# Altium footprint library LMS7002M.PcbLib: 1 footprints
Each footprint in its own frame and in the unit in brackets; x right, y up, seen from the top. Pads: shape width x height; smd on the part's side, far side on the other; paste and mask are expansions set on the pad; w line width, h text height; cw(c..) or ccw(c..) is an arc to the next point about the centre after c.
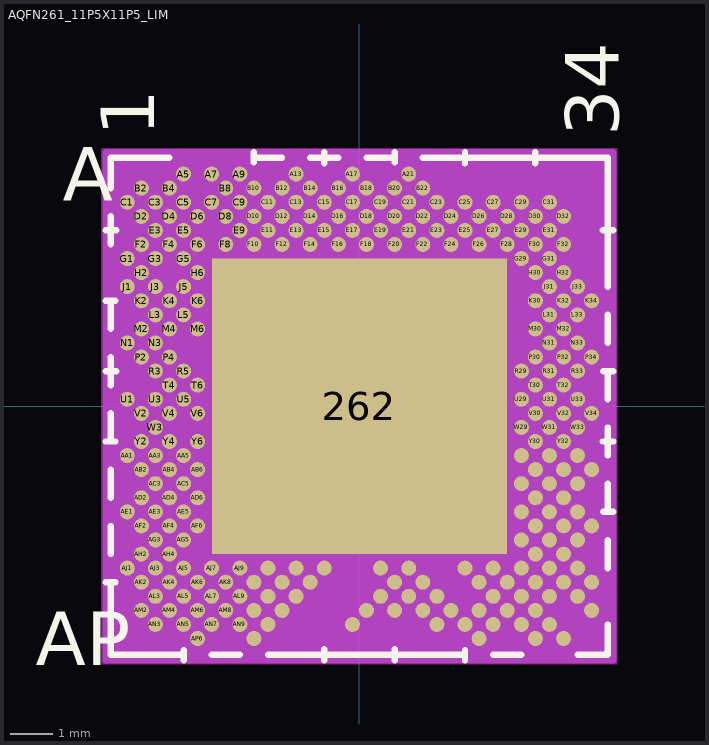
[diagram p0: the footprint, top view; thin cyan lines are the x and y axes]

## AQFN261_11P5X11P5_LIM [mil]
pads (262):
  rect 275x275 smd paste-137 mask+0: 262(0,0)
  round 14 smd paste+0 mask+0: A5(-163.88,216.32) A7(-137.66,216.32) A9(-111.44,216.32) A13(-59,216.32) A17(-6.56,216.32) A21(45.89,216.32) AA1(-216.32,-45.89) AA3(-190.1,-45.89) AA5(-163.88,-45.89) AA29(150.77,-45.89) AA31(176.99,-45.89) AA33(203.21,-45.89) AB2(-203.21,-59) AB4(-176.99,-59) AB6(-150.77,-59) AB30(163.88,-59) AB32(190.1,-59) AB34(216.32,-59) AC3(-190.1,-72.11) AC5(-163.88,-72.11) AC29(150.77,-72.11) AC31(176.99,-72.11) AC33(203.21,-72.11) AD2(-203.21,-85.22) AD4(-176.99,-85.22) AD6(-150.77,-85.22) AD30(163.88,-85.22) AD32(190.1,-85.22) AE1(-216.32,-98.33) AE3(-190.1,-98.33) AE5(-163.88,-98.33) AE29(150.77,-98.33) AE31(176.99,-98.33) AE33(203.21,-98.33) AF2(-203.21,-111.44) AF4(-176.99,-111.44) AF6(-150.77,-111.44) AF30(163.88,-111.44) AF32(190.1,-111.44) AF34(216.32,-111.44) AG3(-190.1,-124.55) AG5(-163.88,-124.55) AG29(150.77,-124.55) AG31(176.99,-124.55) AG33(203.21,-124.55) AH2(-203.21,-137.66) AH4(-176.99,-137.66) AH30(163.88,-137.66) AH32(190.1,-137.66) AJ1(-216.32,-150.77) AJ3(-190.1,-150.77) AJ5(-163.88,-150.77) AJ7(-137.66,-150.77) AJ9(-111.44,-150.77) AJ11(-85.22,-150.77) AJ13(-59,-150.77) AJ15(-32.78,-150.77) AJ19(19.67,-150.77) AJ21(45.89,-150.77) AJ25(98.33,-150.77) AJ27(124.55,-150.77) AJ29(150.77,-150.77) AJ31(176.99,-150.77) AJ33(203.21,-150.77) AK2(-203.21,-163.88) AK4(-176.99,-163.88) AK6(-150.77,-163.88) AK8(-124.55,-163.88) AK10(-98.33,-163.88) AK12(-72.11,-163.88) AK14(-45.89,-163.88) AK20(32.78,-163.88) AK22(59,-163.88) AK26(111.44,-163.88) AK28(137.66,-163.88) AK30(163.88,-163.88) AK32(190.1,-163.88) AK34(216.32,-163.88) AL3(-190.1,-176.99) AL5(-163.88,-176.99) AL7(-137.66,-176.99) AL9(-111.44,-176.99) AL11(-85.22,-176.99) AL13(-59,-176.99) AL19(19.67,-176.99) AL21(45.89,-176.99) AL23(72.11,-176.99) AL27(124.55,-176.99) AL29(150.77,-176.99) AL31(176.99,-176.99) AL33(203.21,-176.99) AM2(-203.21,-190.1) AM4(-176.99,-190.1) AM6(-150.77,-190.1) AM8(-124.55,-190.1) AM10(-98.33,-190.1) AM12(-72.11,-190.1) AM18(6.56,-190.1) AM20(32.78,-190.1) AM22(59,-190.1) AM24(85.22,-190.1) AM26(111.44,-190.1) AM28(137.66,-190.1) AM30(163.88,-190.1) AM34(216.32,-190.1) AN3(-190.1,-203.21) AN5(-163.88,-203.21) AN7(-137.66,-203.21) AN9(-111.44,-203.21) AN11(-85.22,-203.21) AN17(-6.56,-203.21) AN23(72.11,-203.21) AN25(98.33,-203.21) AN27(124.55,-203.21) AN29(150.77,-203.21) AN31(176.99,-203.21) AP6(-150.77,-216.32) AP10(-98.33,-216.32) AP26(111.44,-216.32) AP30(163.88,-216.32) AP32(190.1,-216.32) B2(-203.21,203.21) B4(-176.99,203.21) B8(-124.55,203.21) B10(-98.33,203.21) B12(-72.11,203.21) B14(-45.89,203.21) B16(-19.67,203.21) B18(6.56,203.21) B20(32.78,203.21) B22(59,203.21) C1(-216.32,190.1) C3(-190.1,190.1) C5(-163.88,190.1) C7(-137.66,190.1) C9(-111.44,190.1) C11(-85.22,190.1) C13(-59,190.1) C15(-32.78,190.1) C17(-6.56,190.1) C19(19.67,190.1) C21(45.89,190.1) C23(72.11,190.1) C25(98.33,190.1) C27(124.55,190.1) C29(150.77,190.1) C31(176.99,190.1) D2(-203.21,176.99) D4(-176.99,176.99) D6(-150.77,176.99) D8(-124.55,176.99) D10(-98.33,176.99) D12(-72.11,176.99) D14(-45.89,176.99) D16(-19.67,176.99) D18(6.56,176.99) D20(32.78,176.99) D22(59,176.99) D24(85.22,176.99) D26(111.44,176.99) D28(137.66,176.99) D30(163.88,176.99) D32(190.1,176.99) E3(-190.1,163.88) E5(-163.88,163.88) E9(-111.44,163.88) E11(-85.22,163.88) E13(-59,163.88) E15(-32.78,163.88) E17(-6.56,163.88) E19(19.67,163.88) E21(45.89,163.88) E23(72.11,163.88) E25(98.33,163.88) E27(124.55,163.88) E29(150.77,163.88) E31(176.99,163.88) F2(-203.21,150.77) F4(-176.99,150.77) F6(-150.77,150.77) F8(-124.55,150.77) F10(-98.33,150.77) F12(-72.11,150.77) F14(-45.89,150.77) F16(-19.67,150.77) F18(6.56,150.77) F20(32.78,150.77) F22(59,150.77) F24(85.22,150.77) F26(111.44,150.77) F28(137.66,150.77) F30(163.88,150.77) F32(190.1,150.77) G1(-216.32,137.66) G3(-190.1,137.66) G5(-163.88,137.66) G29(150.77,137.66) G31(176.99,137.66) H2(-203.21,124.55) H6(-150.77,124.55) H30(163.88,124.55) H32(190.1,124.55) J1(-216.32,111.44) J3(-190.1,111.44) J5(-163.88,111.44) J31(176.99,111.44) J33(203.21,111.44) K2(-203.21,98.33) K4(-176.99,98.33) K6(-150.77,98.33) K30(163.88,98.33) K32(190.1,98.33) K34(216.32,98.33) L3(-190.1,85.22) L5(-163.88,85.22) L31(176.99,85.22) L33(203.21,85.22) M2(-203.21,72.11) M4(-176.99,72.11) M6(-150.77,72.11) M30(163.88,72.11) M32(190.1,72.11) N1(-216.32,59) N3(-190.1,59) N31(176.99,59) N33(203.21,59) P2(-203.21,45.89) P4(-176.99,45.89) P30(163.88,45.89) P32(190.1,45.89) P34(216.32,45.89) R3(-190.1,32.78) R5(-163.88,32.78) R29(150.77,32.78) R31(176.99,32.78) R33(203.21,32.78) T4(-176.99,19.67) T6(-150.77,19.67) T30(163.88,19.67) T32(190.1,19.67) U1(-216.32,6.56) U3(-190.1,6.56) U5(-163.88,6.56) U29(150.77,6.56) U31(176.99,6.56) U33(203.21,6.56) V2(-203.21,-6.56) V4(-176.99,-6.56) V6(-150.77,-6.56) V30(163.88,-6.56) V32(190.1,-6.56) V34(216.32,-6.56) W3(-190.1,-19.67) W29(150.77,-19.67) W31(176.99,-19.67) W33(203.21,-19.67) Y2(-203.21,-32.78) Y4(-176.99,-32.78) Y6(-150.77,-32.78) Y30(163.88,-32.78) Y32(190.1,-32.78)
Top Overlay:
  lines w6: -236.5,-163.88 -227.3,-163.88 ; -236.5,-32.78 -227.3,-32.78 ; -236.5,32.78 -226.5,32.78 ; -236.5,98.33 -227.3,98.33 ; -236.5,163.88 -226.5,163.88 ; -231.5,-163.94 -231.5,-231.5 -163.94,-231.5 ; -231.5,-137.59 -231.5,-111.5 ; -231.5,-85.15 -231.5,-59.06 ; -231.5,-32.71 -231.5,-6.62 ; -231.5,19.73 -231.5,45.82 ; -231.5,72.17 -231.5,98.26 ; -231.5,150.83 -231.5,176.92 ; -231.5,203.27 -231.5,231.5 -177.05,231.5 ; -163.88,-236.5 -163.88,-227.3 ; -137.59,-231.5 -111.5,-231.5 ; -98.33,227.3 -98.33,236.5 ; -98.26,231.5 -72.17,231.5 ; -85.15,-231.5 98.26,-231.5 ; -45.82,231.5 -19.73,231.5 ; -32.78,-236.5 -32.78,-226.5 ; -32.78,226.5 -32.78,236.5 ; 6.62,231.5 32.71,231.5 ; 32.78,-236.5 32.78,-226.5 ; 32.78,227.3 32.78,236.5 ; 59.06,231.5 231.5,231.5 231.5,111.5 ; 98.33,-236.5 98.33,-227.3 ; 98.33,226.5 98.33,236.5 ; 124.61,-231.5 150.7,-231.5 ; 163.88,226.5 163.88,236.5 ; 203.27,-231.5 231.5,-231.5 231.5,-203.27 ; 226.5,-32.78 236.5,-32.78 ; 226.5,163.88 236.5,163.88 ; 227.3,-98.33 236.5,-98.33 ; 227.3,32.78 236.5,32.78 ; 231.5,-150.7 231.5,-124.61 ; 231.5,-98.26 231.5,-72.17 ; 231.5,-45.82 231.5,-19.73 ; 231.5,6.62 231.5,32.71 ; 231.5,59.06 231.5,85.15
  text "A" at -276.5,191.32 h50
  text "AP" at -301.5,-241.32 h50
  text "1" at -191.32,251.5 h50
  text "34" at 241.32,251.5 h50
Bottom Overlay:
  text "A" at -251.5,191.32 h50
  text "AP" at -251.5,-241.32 h50
  text "1" at -241.32,251.5 h50
  text "34" at 191.32,251.5 h50
Top Paste:
  region: -86.44,133.56 -133.56,133.56 -133.56,86.44 -86.44,86.44
  region: -86.44,78.56 -133.56,78.56 -133.56,31.44 -86.44,31.44
  region: -86.44,23.56 -133.56,23.56 -133.56,-23.56 -86.44,-23.56
  region: -86.44,-31.44 -133.56,-31.44 -133.56,-78.56 -86.44,-78.56
  region: -86.44,-86.44 -133.56,-86.44 -133.56,-133.56 -86.44,-133.56
  region: -31.44,133.56 -78.56,133.56 -78.56,86.44 -31.44,86.44
  region: -31.44,78.56 -78.56,78.56 -78.56,31.44 -31.44,31.44
  region: -31.44,23.56 -78.56,23.56 -78.56,-23.56 -31.44,-23.56
  region: -31.44,-31.44 -78.56,-31.44 -78.56,-78.56 -31.44,-78.56
  region: -31.44,-86.44 -78.56,-86.44 -78.56,-133.56 -31.44,-133.56
  region: 23.56,133.56 -23.56,133.56 -23.56,86.44 23.56,86.44
  region: 23.56,78.56 -23.56,78.56 -23.56,31.44 23.56,31.44
  region: 23.56,23.56 -23.56,23.56 -23.56,-23.56 23.56,-23.56
  region: 23.56,-31.44 -23.56,-31.44 -23.56,-78.56 23.56,-78.56
  region: 23.56,-86.44 -23.56,-86.44 -23.56,-133.56 23.56,-133.56
  region: 78.56,133.56 31.44,133.56 31.44,86.44 78.56,86.44
  region: 78.56,78.56 31.44,78.56 31.44,31.44 78.56,31.44
  region: 78.56,23.56 31.44,23.56 31.44,-23.56 78.56,-23.56
  region: 78.56,-31.44 31.44,-31.44 31.44,-78.56 78.56,-78.56
  region: 78.56,-86.44 31.44,-86.44 31.44,-133.56 78.56,-133.56
  region: 133.56,133.56 86.44,133.56 86.44,86.44 133.56,86.44
  region: 133.56,78.56 86.44,78.56 86.44,31.44 133.56,31.44
  region: 133.56,23.56 86.44,23.56 86.44,-23.56 133.56,-23.56
  region: 133.56,-31.44 86.44,-31.44 86.44,-78.56 133.56,-78.56
  region: 133.56,-86.44 86.44,-86.44 86.44,-133.56 133.56,-133.56
Keep-Out Layer:
  region: -240.37,-240.37 -240.37,240.37 240.37,240.37 240.37,-240.37
Mechanical 13:
  lines w1: -226.5,219.94 -219.94,226.5 ; -226.5,-226.5 226.5,-226.5 226.5,226.5 -226.5,226.5 -226.5,-226.5
  text "A" at -276.5,191.32 h50
  text "AP" at -301.5,-241.32 h50
  text "1" at -191.32,251.5 h50
  text "34" at 241.32,251.5 h50
Mechanical 15:
  region: 236.5,-236.5 -236.5,-236.5 -236.5,236.5 236.5,236.5
  lines w6: -236.5,-236.5 -236.5,236.5 236.5,236.5 236.5,-236.5 -236.5,-236.5
3D body "AQFN261_11P5X11P5_LIM.step": height 33.11, standoff 0.01, extent -226.5,-226.5 226.5,226.5